# EAGLE library part MCP1624 (library _MyComponents)
MCP1624 0.65V Start-up Synchronous Boost Regulator with True Output Disconnect or Input/Output Bypass Option The MCP1624 is a compact, high-efficiency, fixed frequency, synchronous step-up DC-DC converter.
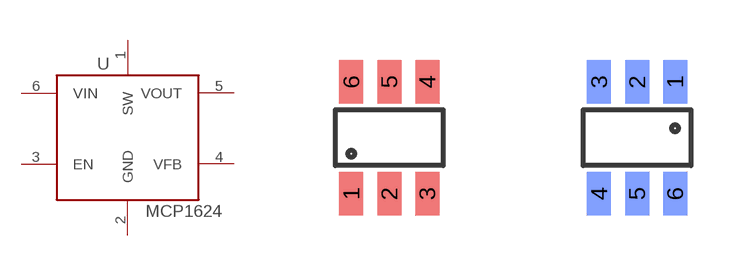
[diagram p4: symbol with the pads of SOT23-6; footprints SOT23-6, SOT23-6BOT]

Designator prefix -

## MCP1624TOP  [SOT23-6]
1  SW  pas
2  GND  pwr
3  EN  in
4  VFB  in
5  VOUT  pwr
6  VIN  pwr

## MCP1624  [SOT23-6BOT]
Pads as for SOT23-6

## Footprint SOT23-6 (pad centres in mm)
SOT23-6
smd 0.6 x 1.1: 1 0,0; 2 0.95,0; 3 1.9,0; 4 1.9,2.8; 5 0.95,2.8; 6 0,2.8

## Footprint SOT23-6BOT (pad centres in mm)
SOT23-6
smd 0.6 x 1.1 bottom: 1 1.9,2.8; 2 0.95,2.8; 3 0,2.8; 4 0,0; 5 0.95,0; 6 1.9,0